# EAGLE library part NE5532 (library NE5532)
NE5532 - dual op amp Datasheet: http://www.ti.com/lit/ds/symlink/ne5532.pdf
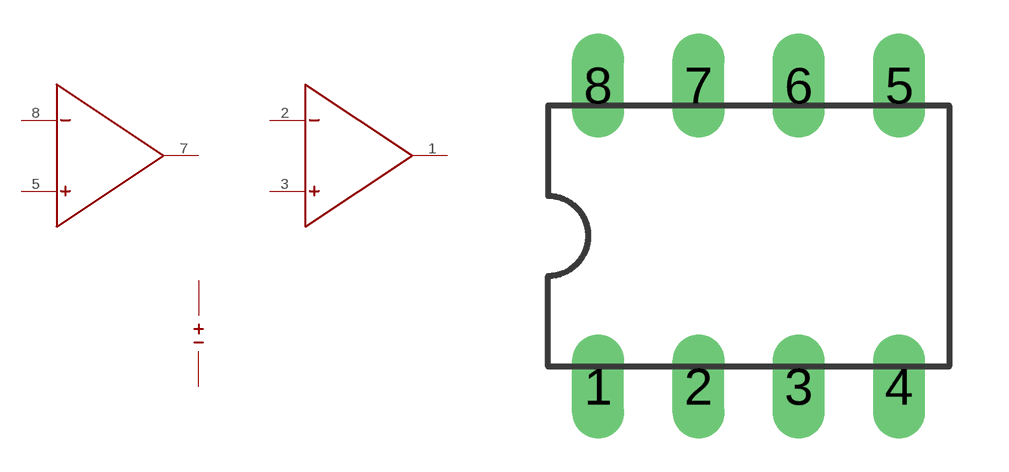
[diagram p0: symbol with the pads of DIL08; footprint DIL08]

Designator prefix U; gates G$1=OP-AMP G$2=OP-AMP G$3=SUPPLY

## NE5532  [DIL08]
1  G$1:P$3
2  G$1:P$1
3  G$1:P$2
4  G$3:P$2
5  G$2:P$2
6  G$3:P$1
7  G$2:P$3
8  G$2:P$1

## Footprint DIL08 (pad centres in mm)
Dual In Line Package
drill 0.813 long: 1 -3.81,-3.81; 2 -1.27,-3.81; 3 1.27,-3.81; 4 3.81,-3.81; 5 3.81,3.81; 6 1.27,3.81; 7 -1.27,3.81; 8 -3.81,3.81